# Altium footprint library Connector_Samtec_FSI.PcbLib: 90 footprints (part 1 of 6)
Each footprint in its own frame and in the unit in brackets; x right, y up, seen from the top. Pads: shape width x height; smd on the part's side, far side on the other; paste and mask are expansions set on the pad; w line width, h text height; cw(c..) or ccw(c..) is an arc to the next point about the centre after c.
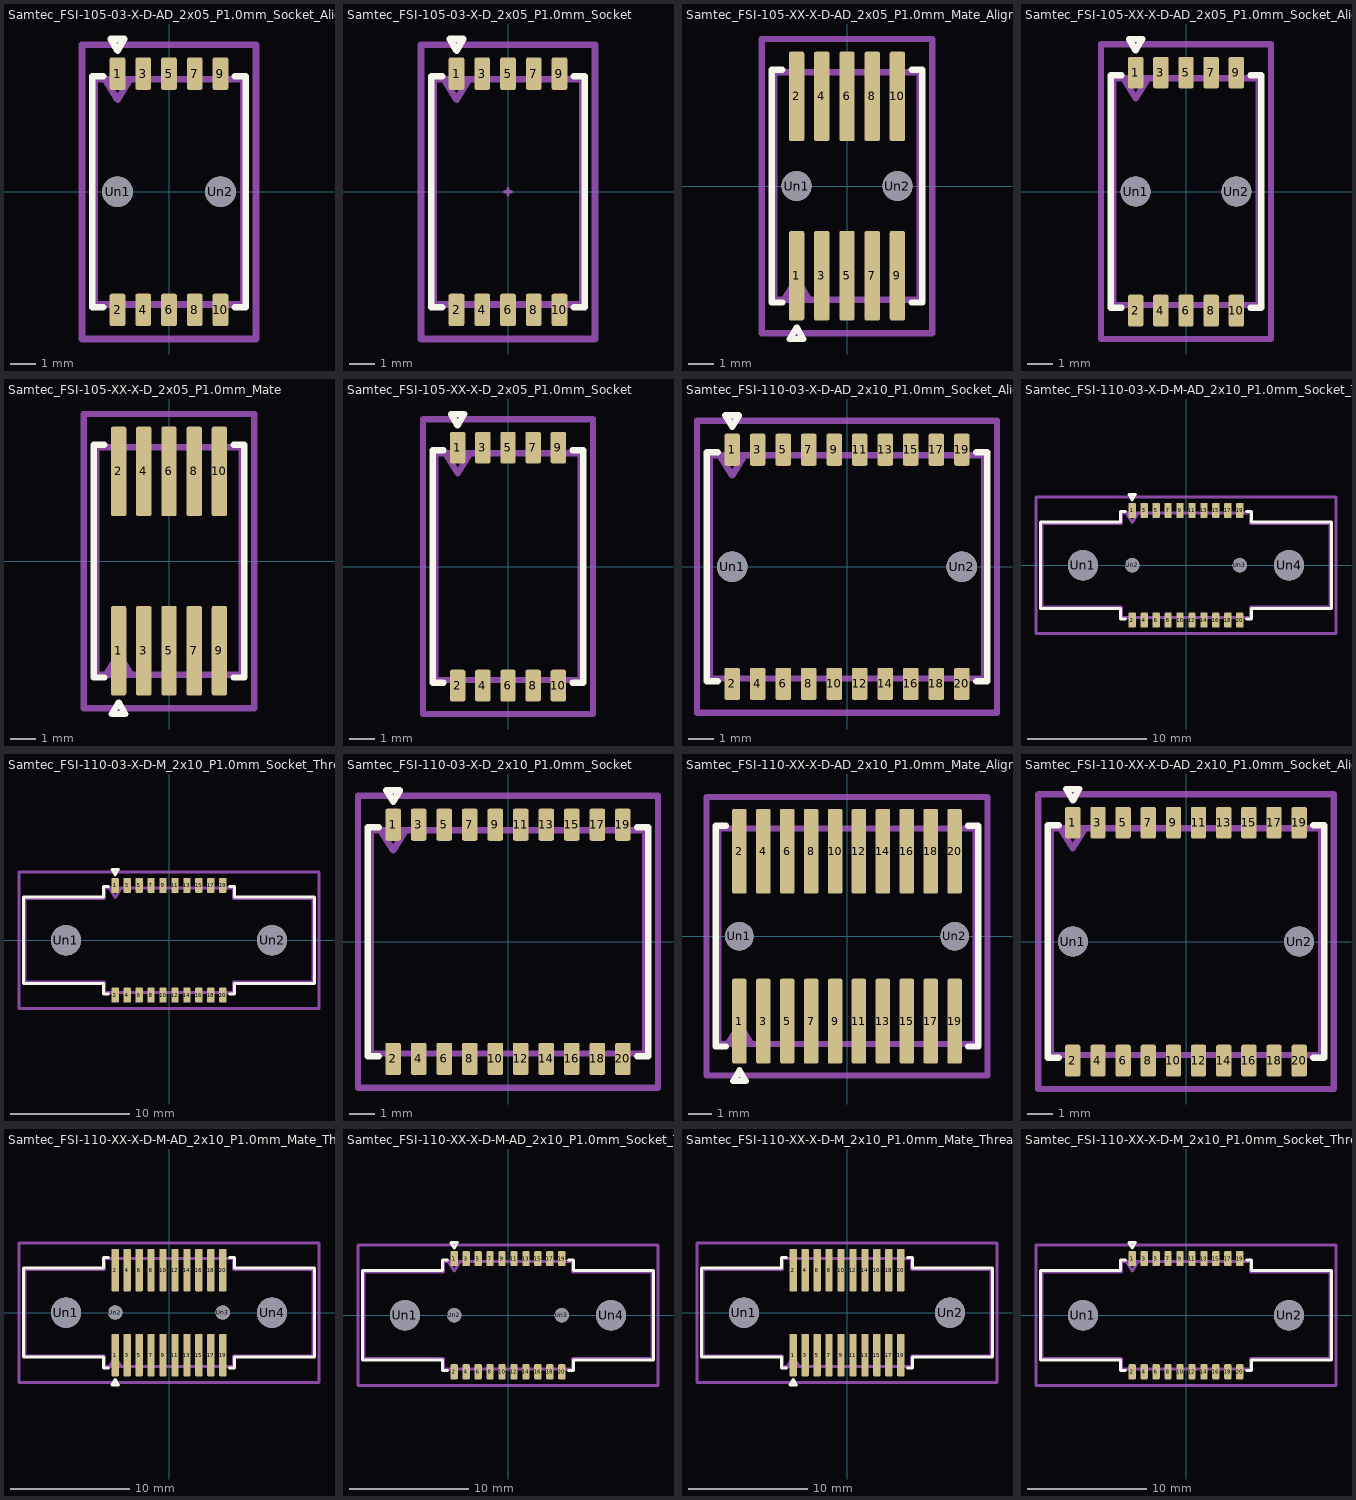
[diagram p0: the footprints below, top view; thin cyan lines are the x and y axes]

## Samtec_FSI-105-03-X-D-AD_2x05_P1.0mm_Socket_AlignmentPin [mm]
pads (12):
  rrect25% 0.61x1.26 smd: 1(-2,4.59) 2(-2,-4.59) 3(-1,4.59) 4(-1,-4.59) 5(0,4.59) 6(0,-4.59) 7(1,4.59) 8(1,-4.59) 9(2,4.59) 10(2,-4.59)
  round 1.19 hole 1.19: Un1(-2,0) Un2(2,0)
F.SilkS:
  lines w0.254: -2.565,-4.49 -2.99,-4.49 -2.99,4.49 -2.565,4.49 ; 2.565,-4.49 2.99,-4.49 2.99,4.49 2.565,4.49 ; -2.264,5.937 -1.736,5.937 -2,5.48 -2.264,5.937
Top Assembly:
  lines w0.254: -2.5,4.38 -2,3.58 -1.5,4.38 ; -2.88,-4.38 2.88,-4.38 2.88,4.38 -2.88,4.38 -2.88,-4.38
  text "'.Designator'" at -4.047,-0.84 h1
Top Courtyard:
  lines w0.254: -3.38,-5.72 3.38,-5.72 3.38,5.72 -3.38,5.72 -3.38,-5.72
Top Designator:
  text ".Designator" at -7.768,-0.399 h1.52

## Samtec_FSI-105-03-X-D_2x05_P1.0mm_Socket [mm]
pads (10):
  rrect25% 0.61x1.26 smd: 1(-2,4.59) 2(-2,-4.59) 3(-1,4.59) 4(-1,-4.59) 5(0,4.59) 6(0,-4.59) 7(1,4.59) 8(1,-4.59) 9(2,4.59) 10(2,-4.59)
F.SilkS:
  lines w0.254: -2.565,-4.49 -2.99,-4.49 -2.99,4.49 -2.565,4.49 ; 2.565,-4.49 2.99,-4.49 2.99,4.49 2.565,4.49 ; -2.264,5.937 -1.736,5.937 -2,5.48 -2.264,5.937
Top Component Center:
  lines w0.127: -0.127,0 0.127,0 ; 0,-0.127 0,0.127
Top Assembly:
  lines w0.254: -2.5,4.38 -2,3.58 -1.5,4.38 ; -2.88,-4.38 2.88,-4.38 2.88,4.38 -2.88,4.38 -2.88,-4.38
  text "'.Designator'" at -4.047,-0.84 h1
Top Courtyard:
  lines w0.254: -3.38,-5.72 3.38,-5.72 3.38,5.72 -3.38,5.72 -3.38,-5.72
Top Designator:
  text ".Designator" at -7.768,-0.399 h1.52

## Samtec_FSI-105-XX-X-D-AD_2x05_P1.0mm_Mate_AlignmentPin [mm]
pads (12):
  rrect25% 0.61x3.55 smd: 1(-2,-3.555) 2(-2,3.555) 3(-1,-3.555) 4(-1,3.555) 5(0,-3.555) 6(0,3.555) 7(1,-3.555) 8(1,3.555) 9(2,-3.555) 10(2,3.555)
  round 1.19 hole 1.19: Un1(-2,0) Un2(2,0)
F.SilkS:
  lines w0.254: -2.565,-4.618 -2.99,-4.618 -2.99,4.618 -2.565,4.618 ; 2.565,-4.618 2.99,-4.618 2.99,4.618 2.565,4.618 ; -2.264,-6.066 -1.736,-6.066 -2,-5.609 -2.264,-6.066
Top Assembly:
  lines w0.254: -2.5,-4.508 -2,-3.708 -1.5,-4.508 ; -2.88,-4.508 2.88,-4.508 2.88,4.508 -2.88,4.508 -2.88,-4.508
  text "'.Designator'" at -4.047,-0.84 h1
Top Courtyard:
  lines w0.254: -3.38,-5.83 3.38,-5.83 3.38,5.83 -3.38,5.83 -3.38,-5.83
Top Designator:
  text ".Designator" at -7.768,-0.626 h1.52

## Samtec_FSI-105-XX-X-D-AD_2x05_P1.0mm_Socket_AlignmentPin [mm]
pads (12):
  rrect25% 0.61x1.26 smd: 1(-2,4.73) 2(-2,-4.73) 3(-1,4.73) 4(-1,-4.73) 5(0,4.73) 6(0,-4.73) 7(1,4.73) 8(1,-4.73) 9(2,4.73) 10(2,-4.73)
  round 1.19 hole 1.19: Un1(-2,0) Un2(2,0)
F.SilkS:
  lines w0.254: -2.565,-4.618 -2.99,-4.618 -2.99,4.618 -2.565,4.618 ; -2.007,5.62 -2.264,6.066 -1.736,6.066 -1.993,5.62 ; 2.565,-4.618 2.99,-4.618 2.99,4.618 2.565,4.618
Top Assembly:
  lines w0.254: -2.5,4.508 -2,3.708 -1.5,4.508 ; -2.88,-4.508 2.88,-4.508 2.88,4.508 -2.88,4.508 -2.88,-4.508
  text "'.Designator'" at -4.047,-0.84 h1
Top Courtyard:
  lines w0.254: -3.38,-5.86 3.38,-5.86 3.38,5.86 -3.38,5.86 -3.38,-5.86
Top Designator:
  text ".Designator" at -7.768,-0.405 h1.52

## Samtec_FSI-105-XX-X-D_2x05_P1.0mm_Mate [mm]
pads (10):
  rrect25% 0.61x3.55 smd: 1(-2,-3.555) 2(-2,3.555) 3(-1,-3.555) 4(-1,3.555) 5(0,-3.555) 6(0,3.555) 7(1,-3.555) 8(1,3.555) 9(2,-3.555) 10(2,3.555)
F.SilkS:
  lines w0.254: -2.565,-4.618 -2.99,-4.618 -2.99,4.618 -2.565,4.618 ; 2.565,-4.618 2.99,-4.618 2.99,4.618 2.565,4.618 ; -2.264,-6.066 -1.736,-6.066 -2,-5.609 -2.264,-6.066
Top Assembly:
  lines w0.254: -2.5,-4.508 -2,-3.708 -1.5,-4.508 ; -2.88,-4.508 2.88,-4.508 2.88,4.508 -2.88,4.508 -2.88,-4.508
  text "'.Designator'" at -4.047,-0.84 h1
Top Courtyard:
  lines w0.254: -3.38,-5.83 3.38,-5.83 3.38,5.83 -3.38,5.83 -3.38,-5.83
Top Designator:
  text ".Designator" at -7.768,-0.626 h1.52

## Samtec_FSI-105-XX-X-D_2x05_P1.0mm_Socket [mm]
pads (10):
  rrect25% 0.61x1.26 smd: 1(-2,4.73) 2(-2,-4.73) 3(-1,4.73) 4(-1,-4.73) 5(0,4.73) 6(0,-4.73) 7(1,4.73) 8(1,-4.73) 9(2,4.73) 10(2,-4.73)
F.SilkS:
  lines w0.254: -2.565,-4.618 -2.99,-4.618 -2.99,4.618 -2.565,4.618 ; -2.007,5.62 -2.264,6.066 -1.736,6.066 -1.993,5.62 ; 2.565,-4.618 2.99,-4.618 2.99,4.618 2.565,4.618
Top Assembly:
  lines w0.254: -2.5,4.508 -2,3.708 -1.5,4.508 ; -2.88,-4.508 2.88,-4.508 2.88,4.508 -2.88,4.508 -2.88,-4.508
  text "'.Designator'" at -4.047,-0.84 h1
Top Courtyard:
  lines w0.254: -3.38,-5.86 3.38,-5.86 3.38,5.86 -3.38,5.86 -3.38,-5.86
Top Designator:
  text ".Designator" at -7.768,-0.405 h1.52

## Samtec_FSI-110-03-X-D-AD_2x10_P1.0mm_Socket_AlignmentPin [mm]
pads (22):
  rrect25% 0.61x1.26 smd: 1(-4.5,4.59) 2(-4.5,-4.59) 3(-3.5,4.59) 4(-3.5,-4.59) 5(-2.5,4.59) 6(-2.5,-4.59) 7(-1.5,4.59) 8(-1.5,-4.59) 9(-0.5,4.59) 10(-0.5,-4.59) 11(0.5,4.59) 12(0.5,-4.59) 13(1.5,4.59) 14(1.5,-4.59) 15(2.5,4.59) 16(2.5,-4.59) 17(3.5,4.59) 18(3.5,-4.59) 19(4.5,4.59) 20(4.5,-4.59)
  round 1.19 hole 1.19: Un1(-4.5,0) Un2(4.5,0)
F.SilkS:
  lines w0.254: -5.065,-4.49 -5.49,-4.49 -5.49,4.49 -5.065,4.49 ; 5.065,-4.49 5.49,-4.49 5.49,4.49 5.065,4.49 ; -4.764,5.937 -4.236,5.937 -4.5,5.48 -4.764,5.937
Top Assembly:
  lines w0.254: -5,4.38 -4.5,3.58 -4,4.38 ; -5.38,-4.38 5.38,-4.38 5.38,4.38 -5.38,4.38 -5.38,-4.38
  text "'.Designator'" at -4.047,-0.84 h1
Top Courtyard:
  lines w0.254: -5.88,-5.72 5.88,-5.72 5.88,5.72 -5.88,5.72 -5.88,-5.72
Top Designator:
  text ".Designator" at -7.618,-0.399 h1.52

## Samtec_FSI-110-03-X-D-M-AD_2x10_P1.0mm_Socket_Threaded_AlignmentPin [mm]
pads (24):
  rrect25% 0.61x1.26 smd: 1(-4.5,4.59) 2(-4.5,-4.59) 3(-3.5,4.59) 4(-3.5,-4.59) 5(-2.5,4.59) 6(-2.5,-4.59) 7(-1.5,4.59) 8(-1.5,-4.59) 9(-0.5,4.59) 10(-0.5,-4.59) 11(0.5,4.59) 12(0.5,-4.59) 13(1.5,4.59) 14(1.5,-4.59) 15(2.5,4.59) 16(2.5,-4.59) 17(3.5,4.59) 18(3.5,-4.59) 19(4.5,4.59) 20(4.5,-4.59)
  round 2.54 hole 2.54: Un1(-8.62,0) Un4(8.62,0)
  round 1.19 hole 1.19: Un2(-4.5,0) Un3(4.5,0)
F.SilkS:
  lines w0.254: -5.065,-4.49 -5.49,-4.49 -5.49,-3.605 -12.16,-3.605 -12.16,3.605 -5.49,3.605 -5.49,4.49 -5.065,4.49 ; 5.065,-4.49 5.49,-4.49 5.49,-3.605 12.16,-3.605 12.16,3.605 5.49,3.605 5.49,4.49 5.065,4.49 ; -4.764,5.937 -4.236,5.937 -4.5,5.48 -4.764,5.937
Top Assembly:
  lines w0.254: -5,4.38 -4.5,3.58 -4,4.38 ; -12.05,-3.495 -5.38,-3.495 -5.38,-4.38 5.38,-4.38 5.38,-3.495 12.05,-3.495 12.05,3.495 5.38,3.495 5.38,4.38 -5.38,4.38 -5.38,3.495 -12.05,3.495 -12.05,-3.495
  text "'.Designator'" at -4.047,-0.84 h1
Top Courtyard:
  lines w0.254: -12.55,-5.72 12.55,-5.72 12.55,5.72 -12.55,5.72 -12.55,-5.72
Top Designator:
  text ".Designator" at -7.618,-0.399 h1.52

## Samtec_FSI-110-03-X-D-M_2x10_P1.0mm_Socket_Threaded [mm]
pads (22):
  rrect25% 0.61x1.26 smd: 1(-4.5,4.59) 2(-4.5,-4.59) 3(-3.5,4.59) 4(-3.5,-4.59) 5(-2.5,4.59) 6(-2.5,-4.59) 7(-1.5,4.59) 8(-1.5,-4.59) 9(-0.5,4.59) 10(-0.5,-4.59) 11(0.5,4.59) 12(0.5,-4.59) 13(1.5,4.59) 14(1.5,-4.59) 15(2.5,4.59) 16(2.5,-4.59) 17(3.5,4.59) 18(3.5,-4.59) 19(4.5,4.59) 20(4.5,-4.59)
  round 2.54 hole 2.54: Un1(-8.62,0) Un2(8.62,0)
F.SilkS:
  lines w0.254: -5.065,-4.49 -5.49,-4.49 -5.49,-3.605 -12.16,-3.605 -12.16,3.605 -5.49,3.605 -5.49,4.49 -5.065,4.49 ; 5.065,-4.49 5.49,-4.49 5.49,-3.605 12.16,-3.605 12.16,3.605 5.49,3.605 5.49,4.49 5.065,4.49 ; -4.764,5.937 -4.236,5.937 -4.5,5.48 -4.764,5.937
Top Assembly:
  lines w0.254: -5,4.38 -4.5,3.58 -4,4.38 ; -12.05,-3.495 -5.38,-3.495 -5.38,-4.38 5.38,-4.38 5.38,-3.495 12.05,-3.495 12.05,3.495 5.38,3.495 5.38,4.38 -5.38,4.38 -5.38,3.495 -12.05,3.495 -12.05,-3.495
  text "'.Designator'" at -4.047,-0.84 h1
Top Courtyard:
  lines w0.254: -12.55,-5.72 12.55,-5.72 12.55,5.72 -12.55,5.72 -12.55,-5.72
Top Designator:
  text ".Designator" at -7.618,-0.399 h1.52

## Samtec_FSI-110-03-X-D_2x10_P1.0mm_Socket [mm]
pads (20):
  rrect25% 0.61x1.26 smd: 1(-4.5,4.59) 2(-4.5,-4.59) 3(-3.5,4.59) 4(-3.5,-4.59) 5(-2.5,4.59) 6(-2.5,-4.59) 7(-1.5,4.59) 8(-1.5,-4.59) 9(-0.5,4.59) 10(-0.5,-4.59) 11(0.5,4.59) 12(0.5,-4.59) 13(1.5,4.59) 14(1.5,-4.59) 15(2.5,4.59) 16(2.5,-4.59) 17(3.5,4.59) 18(3.5,-4.59) 19(4.5,4.59) 20(4.5,-4.59)
F.SilkS:
  lines w0.254: -5.065,-4.49 -5.49,-4.49 -5.49,4.49 -5.065,4.49 ; 5.065,-4.49 5.49,-4.49 5.49,4.49 5.065,4.49 ; -4.764,5.937 -4.236,5.937 -4.5,5.48 -4.764,5.937
Top Assembly:
  lines w0.254: -5,4.38 -4.5,3.58 -4,4.38 ; -5.38,-4.38 5.38,-4.38 5.38,4.38 -5.38,4.38 -5.38,-4.38
  text "'.Designator'" at -4.047,-0.84 h1
Top Courtyard:
  lines w0.254: -5.88,-5.72 5.88,-5.72 5.88,5.72 -5.88,5.72 -5.88,-5.72
Top Designator:
  text ".Designator" at -7.618,-0.399 h1.52

## Samtec_FSI-110-XX-X-D-AD_2x10_P1.0mm_Mate_AlignmentPin [mm]
pads (22):
  rrect25% 0.61x3.55 smd: 1(-4.5,-3.555) 2(-4.5,3.555) 3(-3.5,-3.555) 4(-3.5,3.555) 5(-2.5,-3.555) 6(-2.5,3.555) 7(-1.5,-3.555) 8(-1.5,3.555) 9(-0.5,-3.555) 10(-0.5,3.555) 11(0.5,-3.555) 12(0.5,3.555) 13(1.5,-3.555) 14(1.5,3.555) 15(2.5,-3.555) 16(2.5,3.555) 17(3.5,-3.555) 18(3.5,3.555) 19(4.5,-3.555) 20(4.5,3.555)
  round 1.19 hole 1.19: Un1(-4.5,0) Un2(4.5,0)
F.SilkS:
  lines w0.254: -5.065,-4.618 -5.49,-4.618 -5.49,4.618 -5.065,4.618 ; 5.065,-4.618 5.49,-4.618 5.49,4.618 5.065,4.618 ; -4.764,-6.066 -4.236,-6.066 -4.5,-5.609 -4.764,-6.066
Top Assembly:
  lines w0.254: -5,-4.508 -4.5,-3.708 -4,-4.508 ; -5.38,-4.508 5.38,-4.508 5.38,4.508 -5.38,4.508 -5.38,-4.508
  text "'.Designator'" at -4.047,-0.84 h1
Top Courtyard:
  lines w0.254: -5.88,-5.83 5.88,-5.83 5.88,5.83 -5.88,5.83 -5.88,-5.83
Top Designator:
  text ".Designator" at -7.618,-0.626 h1.52

## Samtec_FSI-110-XX-X-D-AD_2x10_P1.0mm_Socket_AlignmentPin [mm]
pads (22):
  rrect25% 0.61x1.26 smd: 1(-4.5,4.73) 2(-4.5,-4.73) 3(-3.5,4.73) 4(-3.5,-4.73) 5(-2.5,4.73) 6(-2.5,-4.73) 7(-1.5,4.73) 8(-1.5,-4.73) 9(-0.5,4.73) 10(-0.5,-4.73) 11(0.5,4.73) 12(0.5,-4.73) 13(1.5,4.73) 14(1.5,-4.73) 15(2.5,4.73) 16(2.5,-4.73) 17(3.5,4.73) 18(3.5,-4.73) 19(4.5,4.73) 20(4.5,-4.73)
  round 1.19 hole 1.19: Un1(-4.5,0) Un2(4.5,0)
F.SilkS:
  lines w0.254: -5.065,-4.618 -5.49,-4.618 -5.49,4.618 -5.065,4.618 ; -4.507,5.62 -4.764,6.066 -4.236,6.066 -4.493,5.62 ; 5.065,-4.618 5.49,-4.618 5.49,4.618 5.065,4.618
Top Assembly:
  lines w0.254: -5,4.508 -4.5,3.708 -4,4.508 ; -5.38,-4.508 5.38,-4.508 5.38,4.508 -5.38,4.508 -5.38,-4.508
  text "'.Designator'" at -4.047,-0.84 h1
Top Courtyard:
  lines w0.254: -5.88,-5.86 5.88,-5.86 5.88,5.86 -5.88,5.86 -5.88,-5.86
Top Designator:
  text ".Designator" at -7.618,-0.405 h1.52

## Samtec_FSI-110-XX-X-D-M-AD_2x10_P1.0mm_Mate_Threaded_AlignmentPin [mm]
pads (24):
  rrect25% 0.61x3.55 smd: 1(-4.5,-3.555) 2(-4.5,3.555) 3(-3.5,-3.555) 4(-3.5,3.555) 5(-2.5,-3.555) 6(-2.5,3.555) 7(-1.5,-3.555) 8(-1.5,3.555) 9(-0.5,-3.555) 10(-0.5,3.555) 11(0.5,-3.555) 12(0.5,3.555) 13(1.5,-3.555) 14(1.5,3.555) 15(2.5,-3.555) 16(2.5,3.555) 17(3.5,-3.555) 18(3.5,3.555) 19(4.5,-3.555) 20(4.5,3.555)
  round 2.54 hole 2.54: Un1(-8.62,0) Un4(8.62,0)
  round 1.19 hole 1.19: Un2(-4.5,0) Un3(4.5,0)
F.SilkS:
  lines w0.254: -5.065,-4.618 -5.49,-4.618 -5.49,-3.734 -12.16,-3.734 -12.16,3.734 -5.49,3.734 -5.49,4.618 -5.065,4.618 ; 5.065,-4.618 5.49,-4.618 5.49,-3.734 12.16,-3.734 12.16,3.734 5.49,3.734 5.49,4.618 5.065,4.618 ; -4.764,-6.066 -4.236,-6.066 -4.5,-5.609 -4.764,-6.066
Top Assembly:
  lines w0.254: -5,-4.508 -4.5,-3.708 -4,-4.508 ; -12.05,-3.624 -5.38,-3.624 -5.38,-4.508 5.38,-4.508 5.38,-3.624 12.05,-3.624 12.05,3.624 5.38,3.624 5.38,4.508 -5.38,4.508 -5.38,3.624 -12.05,3.624 -12.05,-3.624
  text "'.Designator'" at -4.047,-0.84 h1
Top Courtyard:
  lines w0.254: -12.55,-5.83 12.55,-5.83 12.55,5.83 -12.55,5.83 -12.55,-5.83
Top Designator:
  text ".Designator" at -7.618,-0.626 h1.52

## Samtec_FSI-110-XX-X-D-M-AD_2x10_P1.0mm_Socket_Threaded_AlignmentPin [mm]
pads (24):
  rrect25% 0.61x1.26 smd: 1(-4.5,4.73) 2(-4.5,-4.73) 3(-3.5,4.73) 4(-3.5,-4.73) 5(-2.5,4.73) 6(-2.5,-4.73) 7(-1.5,4.73) 8(-1.5,-4.73) 9(-0.5,4.73) 10(-0.5,-4.73) 11(0.5,4.73) 12(0.5,-4.73) 13(1.5,4.73) 14(1.5,-4.73) 15(2.5,4.73) 16(2.5,-4.73) 17(3.5,4.73) 18(3.5,-4.73) 19(4.5,4.73) 20(4.5,-4.73)
  round 2.54 hole 2.54: Un1(-8.62,0) Un4(8.62,0)
  round 1.19 hole 1.19: Un2(-4.5,0) Un3(4.5,0)
F.SilkS:
  lines w0.254: -5.065,-4.618 -5.49,-4.618 -5.49,-3.734 -12.16,-3.734 -12.16,3.734 -5.49,3.734 -5.49,4.618 -5.065,4.618 ; -4.507,5.62 -4.764,6.066 -4.236,6.066 -4.493,5.62 ; 5.065,-4.618 5.49,-4.618 5.49,-3.734 12.16,-3.734 12.16,3.734 5.49,3.734 5.49,4.618 5.065,4.618
Top Assembly:
  lines w0.254: -5,4.508 -4.5,3.708 -4,4.508 ; -12.05,-3.624 -5.38,-3.624 -5.38,-4.508 5.38,-4.508 5.38,-3.624 12.05,-3.624 12.05,3.624 5.38,3.624 5.38,4.508 -5.38,4.508 -5.38,3.624 -12.05,3.624 -12.05,-3.624
  text "'.Designator'" at -4.047,-0.84 h1
Top Courtyard:
  lines w0.254: -12.55,-5.86 12.55,-5.86 12.55,5.86 -12.55,5.86 -12.55,-5.86
Top Designator:
  text ".Designator" at -7.618,-0.405 h1.52

## Samtec_FSI-110-XX-X-D-M_2x10_P1.0mm_Mate_Threaded [mm]
pads (22):
  rrect25% 0.61x3.55 smd: 1(-4.5,-3.555) 2(-4.5,3.555) 3(-3.5,-3.555) 4(-3.5,3.555) 5(-2.5,-3.555) 6(-2.5,3.555) 7(-1.5,-3.555) 8(-1.5,3.555) 9(-0.5,-3.555) 10(-0.5,3.555) 11(0.5,-3.555) 12(0.5,3.555) 13(1.5,-3.555) 14(1.5,3.555) 15(2.5,-3.555) 16(2.5,3.555) 17(3.5,-3.555) 18(3.5,3.555) 19(4.5,-3.555) 20(4.5,3.555)
  round 2.54 hole 2.54: Un1(-8.62,0) Un2(8.62,0)
F.SilkS:
  lines w0.254: -5.065,-4.618 -5.49,-4.618 -5.49,-3.734 -12.16,-3.734 -12.16,3.734 -5.49,3.734 -5.49,4.618 -5.065,4.618 ; 5.065,-4.618 5.49,-4.618 5.49,-3.734 12.16,-3.734 12.16,3.734 5.49,3.734 5.49,4.618 5.065,4.618 ; -4.764,-6.066 -4.236,-6.066 -4.5,-5.609 -4.764,-6.066
Top Assembly:
  lines w0.254: -5,-4.508 -4.5,-3.708 -4,-4.508 ; -12.05,-3.624 -5.38,-3.624 -5.38,-4.508 5.38,-4.508 5.38,-3.624 12.05,-3.624 12.05,3.624 5.38,3.624 5.38,4.508 -5.38,4.508 -5.38,3.624 -12.05,3.624 -12.05,-3.624
  text "'.Designator'" at -4.047,-0.84 h1
Top Courtyard:
  lines w0.254: -12.55,-5.83 12.55,-5.83 12.55,5.83 -12.55,5.83 -12.55,-5.83
Top Designator:
  text ".Designator" at -7.618,-0.626 h1.52

## Samtec_FSI-110-XX-X-D-M_2x10_P1.0mm_Socket_Threaded [mm]
pads (22):
  rrect25% 0.61x1.26 smd: 1(-4.5,4.73) 2(-4.5,-4.73) 3(-3.5,4.73) 4(-3.5,-4.73) 5(-2.5,4.73) 6(-2.5,-4.73) 7(-1.5,4.73) 8(-1.5,-4.73) 9(-0.5,4.73) 10(-0.5,-4.73) 11(0.5,4.73) 12(0.5,-4.73) 13(1.5,4.73) 14(1.5,-4.73) 15(2.5,4.73) 16(2.5,-4.73) 17(3.5,4.73) 18(3.5,-4.73) 19(4.5,4.73) 20(4.5,-4.73)
  round 2.54 hole 2.54: Un1(-8.62,0) Un2(8.62,0)
F.SilkS:
  lines w0.254: -5.065,-4.618 -5.49,-4.618 -5.49,-3.734 -12.16,-3.734 -12.16,3.734 -5.49,3.734 -5.49,4.618 -5.065,4.618 ; -4.507,5.62 -4.764,6.066 -4.236,6.066 -4.493,5.62 ; 5.065,-4.618 5.49,-4.618 5.49,-3.734 12.16,-3.734 12.16,3.734 5.49,3.734 5.49,4.618 5.065,4.618
Top Assembly:
  lines w0.254: -5,4.508 -4.5,3.708 -4,4.508 ; -12.05,-3.624 -5.38,-3.624 -5.38,-4.508 5.38,-4.508 5.38,-3.624 12.05,-3.624 12.05,3.624 5.38,3.624 5.38,4.508 -5.38,4.508 -5.38,3.624 -12.05,3.624 -12.05,-3.624
  text "'.Designator'" at -4.047,-0.84 h1
Top Courtyard:
  lines w0.254: -12.55,-5.86 12.55,-5.86 12.55,5.86 -12.55,5.86 -12.55,-5.86
Top Designator:
  text ".Designator" at -7.618,-0.405 h1.52